# Altium schematic symbol library TIDA00792E2_AFE.SCHLIB: 95 symbols (part 1 of 2)
Pins are listed as number, name and electrical type; pins without a type are passive.

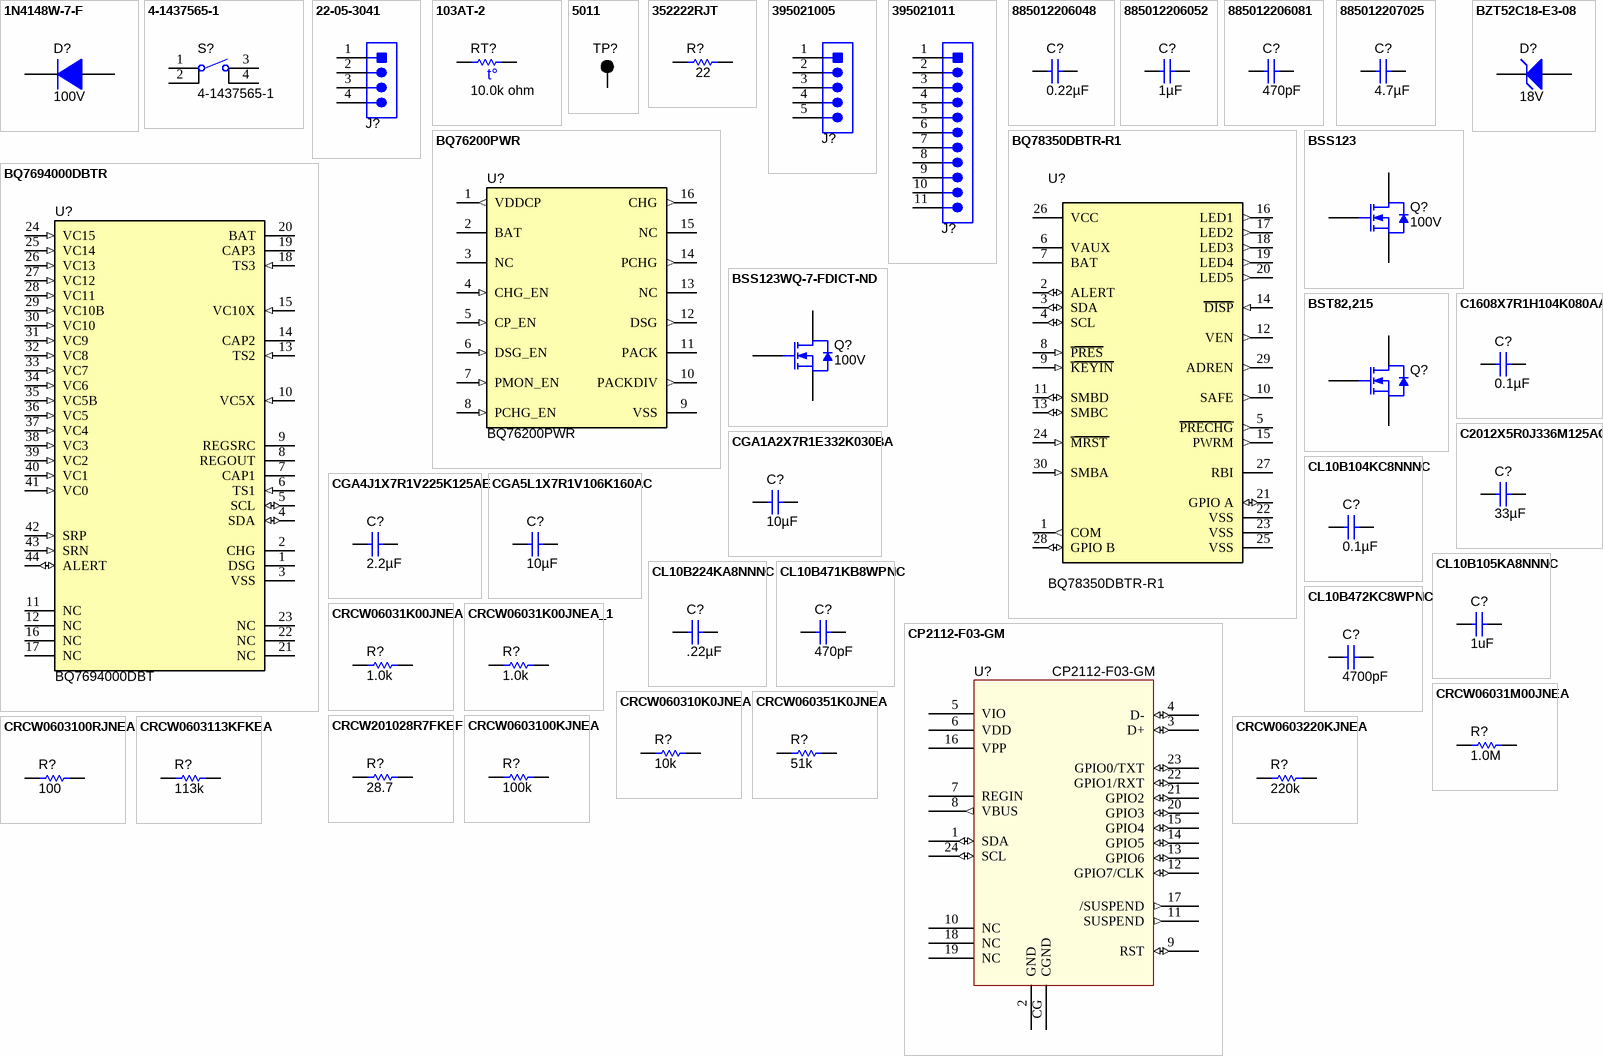
[diagram p0: symbols 1N4148W-7-F to CRCW0603220KJNEA]

## 1N4148W-7-F
designator D?  value 100V  (hidden comment: 1N4148W-7-F)
Diode, Ultrafast, 100V, 0.15A, SOD-123; Manufacturer: Diodes Inc.; U/M: EA; Vf_V: 1.25; Io_A: 0.15; Vr_V: 100; Value2: 1.25V; TJmax_C: 150; ComponentLink1URL: http://www.diodes.com/datasheets/ds30086.pdf; SymbolVersion: 2008-12-08; PackageReference: SOD-123; PartNumber: 1N4148W-7-F; ComponentLink1Description: Datasheet link; CompType: Diode; MountType: SMT; RoHS: Y; Value1: 0.15A; Type: Ultrafast; Published: 2008-06-26; Publisher: Texas Instruments; LatestRevisionDate: 2013-10-23; Supplier 1: Digi-Key; Supplier Part Number 1: 1N4148W-FDICT-ND; Supplier 2: Mouser; Supplier Part Number 2: 621-1N4148W-F; Supplier 3: Farnell; Supplier Part Number 3: 1776392
signal-integrity model Diode
simulation model 1N4148W
footprint SOD-123
pins: 1 K, 2 A

## 4-1437565-1
designator S?
Switch, Tactile, SPST-NO, 0.05A, 12V, SMT; Manufacturer: TE Connectivity; SymbolCreator: a0412235; VDC_V: 12; SwitchFunction: Off-Mom; PositionCount: 1; CurrentRating_mA: 50; ComponentLink1URL: http://www.te.com/commerce/DocumentDelivery/DDEController?Action=showdoc&DocId=Customer+Drawing%7F2-1437565-7%7FU2%7Fpdf%7FEnglish%7FENG_CD_2-1437565-7_U2.pdf%7F4-1437565-1; SymbolVersion: 2013-06-27; PackageReference: SW, SPST 6x6 mm; PartNumber: 4-1437565-1; ComponentLink1Description: Datasheet URL; MountType: SMT; RoHS: Y; Circuit: SPST-NO; Orientation: Top Actuated; CompType: Switch; Publisher: Texas Instruments; LatestRevisionDate: 2013-07-10; Supplier 1: Digi-Key; Supplier Part Number 1: 450-1129-ND; Supplier 2: Mouser; Supplier Part Number 2: 506-FSM4JSMA
footprint SW_FSM4JSMA
pins: 1, 2, 3, 4

## 22-05-3041
designator J?  (value not drawn)
Header (friction lock), 100mil, 4x1, R/A, TH; Manufacturer: Molex; SymbolCreator: a0412235; SymbolVersion: 2013-08-30; PartNumber: 22-05-3041; PackageReference: 4x1 R/A Header; CompType: Header; RoHS: Y; MountType: TH; ComponentLink1Description: Datasheet URL; ComponentLink1URL: http://www.molex.com/pdm_docs/sd/022053041_sd.pdf; Publisher: Texas Instruments; LatestRevisionDate: 2016-07-20; Supplier 1: Digi-Key; Supplier Part Number 1: WM4302-ND; Supplier 2: Mouser; Supplier Part Number 2: 538-22-05-3041; Supplier 3: Farnell; Supplier Part Number 3: 1756798
footprint CONN_22-05-3041
pins: 1, 2, 3, 4

## 103AT-2
designator RT?  value 10.0k ohm  (hidden comment: 103AT-2)
Thermistor NTC, 10.0k ohm, 1%, Disc, 5x8.4 mm; Manufacturer: SEMITEC Corporation; Tolerance_%: 1; Power_W: 0.01; TaMin_C: -50; TaMax_C: 110; U/M: EA; ComponentLink1URL: http://www.semitec.co.jp/english2/products/pdf/AT_Thermistor.pdf; PackageReference: Disc, 5x8.4 mm; SymbolVersion: 2008-11-25; PartNumber: 103AT-2; ComponentLink1Description: Datasheet link; CompType: ThermistorNTC; Series: AT; MountType: TH; RoHS: Y; Published: 2009-09-22; Publisher: Texas Instruments; LatestRevisionDate: 2013-08-16; Supplier 1: Mouser; Supplier Part Number 1: 954-103AT-2
footprint Thermistor_103AT-2
pins: 1, 2
text: t°

## 5011
designator TP?  (value not drawn)
Test Point, Multipurpose, Black, TH; Manufacturer: Keystone; CompType: Test Point Loop; ContactFinish: Silver; SymbolVersion: 2008-04-04; PartNumber: 5011; PackageReference: Black Multipurpose Testpoint; RoHS: Y; MountType: TH; ComponentLink1Description: Datasheet URL; ComponentLink1URL: http://www.keyelco.com/userAssets/file/M60-2p60.pdf; Color: Black; Publisher: Texas Instruments; LatestRevisionDate: 2016-02-11; Supplier 1: Digi-Key; Supplier Part Number 1: 36-5011-ND; Supplier 2: Mouser; Supplier Part Number 2: 534-5011
footprint Keystone5011
pins: 1

## 352222RJT
designator R?  ValueDisplayed: 22  (hidden comment: 352222RJT)
RES SMD 22 OHM 5% 3W 2512; Manufacturer: TE Connectivity Passive Product; CompType: Resistor; Value: 22; Tolerance_%: 5; VDC_V: 250; U/M: EA; SymbolVersion: 2009-05-29; PartNumber: 352222RJT; PackageReference: 2512; RoHS: Y; Res_ohm: 22; Value_Code: 22; Value1: 5%; Power_W: 3W; Value2: 3W; MountType: SMT; Technology: Thick Film; Published: 2008-06-26; Publisher: Texas Instruments; LatestRevisionDate: 2016-06-10; ComponentLink1Description: Datasheet link; ComponentLink1URL: http://www.te.com/commerce/DocumentDelivery/DDEController?Action=srchrtrv&DocNm=9-1773463-7&DocType=DS&DocLang=English; Supplier 1: Newark; Supplier 2: Mouser; Supplier 3: Digi-Key; Supplier Part Number 1: 48Y0381; Supplier Part Number 2: 279-352222RJT; Supplier Part Number 3: A121192CT-ND
signal-integrity model Resistor
simulation model Resistor
footprint STACKPOLE CSR2512 (Chip Resistor, 2-Leads, Body 6.40x3.20mm, IPC Medium Density)
footprint 2010M
footprint 2010L
pins: 1, 2

## 395021005
designator J?  (value not drawn)
Header (shrouded), 3.5mm, 5x1, R/A, TH; Manufacturer: Molex; SymbolCreator: a0412235; SymbolVersion: 2013-12-22; PartNumber: 395021005; PackageReference: 19.03x7.03x9.33 mm; CompType: Header; RoHS: Y; MountType: TH; ComponentLink1Description: Datasheet URL; ComponentLink1URL: http://www.molex.com/pdm_docs/sd/395021002_sd.pdf; Publisher: Texas Instruments; LatestRevisionDate: 2016-03-03; Supplier 1: Digi-Key; Supplier Part Number 1: WM7773-ND; Supplier 2: Mouser; Supplier Part Number 2: 538-39502-1005
footprint HEADER_395021005
pins: 1, 2, 3, 4, 5

## 395021011
designator J?  (value not drawn)
Terminal block, 3.5mm, 11x1, R/A, TH; Manufacturer: Molex; SymbolCreator: a0799628; U/M: EA; SymbolVersion: 2013-12-22; PartNumber: 395021011; PackageReference: 39.90x7.03x9.33 mm; CompType: Terminal Block; RoHS: Y; MountType: TH; ComponentLink1Description: Datasheet Link; ComponentLink1URL: http://www.molex.com/pdm_docs/sd/395021002_sd.pdf; Publisher: Texas Instruments; LatestRevisionDate: 2015-02-18; Supplier 1: Digi-Key; Supplier Part Number 1: WM7779-ND; Supplier 2: Mouser; Supplier Part Number 2: 538-39502-1011
footprint HEADER_395021011
pins: 1, 2, 3, 4, 5, 6, 7, 8, 9, 10, 11

## 885012206048
designator C?  ValueDisplayed: 0.22µF  (hidden comment: 885012206048)
CAP, CERM, 0.22 µF, 16 V, +/- 10%, X7R, 0603; Manufacturer: Wurth Elektronik; Polarized: N; CompType: Capacitor; Value: 0.22uF; U/M: EA; Cap_F: 0.00000022; Tolerance_%: 10; Value1: Unknown; VDC_V: 16; Value2: 16V; TaMin_C: -55; TaMax_C: 125; Cap_Case: 0603; SizeArea_mm2: 1.28; SizeAreaWB_mm2: 4.68; SizeX_mm: 1.6; SizeY_mm: 0.8; SizeZ_mm: 1; AEC Category: Q200; SymbolVersion: 2008-07-09; PartNumber: 885012206048; PackageReference: 0603; RoHS: Y; MountType: SMT; Technology: Ceramic; TempCo: X7R; Published: 2008-06-19; Publisher: Texas Instruments; LatestRevisionDate: 2016-06-14; ComponentLink1Description: Datasheet link; ComponentLink1URL: http://katalog.we-online.de/pbs/datasheet/885012206048.pdf; Supplier 1: Mouser; Supplier Part Number 1: 710-885012206048; AEC Qualified: N; AEC Grade: N/A
signal-integrity model Cap
simulation model Cap
footprint 0603
footprint 0603M
footprint 0603L
footprint 0603_HV
footprint 0603S
pins: 1, 2

## 885012206052
designator C?  ValueDisplayed: 1µF  (hidden comment: 885012206052)
CAP, CERM, 1 µF, 16 V, +/- 10%, X7R, 0603; Manufacturer: Wurth Elektronik; Polarized: N; CompType: Capacitor; Value: 1uF; U/M: EA; Cap_F: 0.000001; Tolerance_%: 10; Value1: Unknown; VDC_V: 16; Value2: 16V; TaMin_C: -55; TaMax_C: 125; Cap_Case: 0603; SizeArea_mm2: 1.28; SizeAreaWB_mm2: 4.68; SizeX_mm: 1.6; SizeY_mm: 0.8; SizeZ_mm: 1; AEC Category: Q200; SymbolVersion: 2008-07-09; PartNumber: 885012206052; PackageReference: 0603; RoHS: Y; MountType: SMT; Technology: Ceramic; TempCo: X7R; Published: 2008-06-19; Publisher: Texas Instruments; LatestRevisionDate: 2016-06-14; ComponentLink1Description: Datasheet link; ComponentLink1URL: http://katalog.we-online.de/pbs/datasheet/885012206052.pdf; Supplier 1: Mouser; Supplier Part Number 1: 710-885012206052; AEC Qualified: N; AEC Grade: N/A
signal-integrity model Cap
simulation model Cap
footprint 0603
footprint 0603M
footprint 0603L
footprint 0603_HV
footprint 0603S
pins: 1, 2

## 885012206081
designator C?  ValueDisplayed: 470pF  (hidden comment: 885012206081)
CAP, CERM, 470 pF, 50 V, +/- 10%, X7R, 0603; Manufacturer: Wurth Elektronik; Polarized: N; CompType: Capacitor; Value: 470pF; U/M: EA; Cap_F: 0.00000000047; Tolerance_%: 10; Value1: Unknown; VDC_V: 50; Value2: 50V; TaMin_C: -55; TaMax_C: 125; Cap_Case: 0603; SizeArea_mm2: 1.28; SizeAreaWB_mm2: 4.68; SizeX_mm: 1.6; SizeY_mm: 0.8; SizeZ_mm: 1; AEC Category: Q200; SymbolVersion: 2008-07-09; PartNumber: 885012206081; PackageReference: 0603; RoHS: Y; MountType: SMT; Technology: Ceramic; TempCo: X7R; Published: 2008-06-19; Publisher: Texas Instruments; LatestRevisionDate: 2016-06-14; ComponentLink1Description: Datasheet link; ComponentLink1URL: http://katalog.we-online.de/pbs/datasheet/885012206081.pdf; Supplier 1: Mouser; Supplier Part Number 1: 710-885012206081; AEC Qualified: N; AEC Grade: N/A
signal-integrity model Cap
simulation model Cap
footprint 0603
footprint 0603M
footprint 0603L
footprint 0603_HV
footprint 0603S
pins: 1, 2

## 885012207025
designator C?  ValueDisplayed: 4.7µF  (hidden comment: 885012207025)
CAP, CERM, 4.7 µF, 10 V, +/- 10%, X7R, 0805; Manufacturer: Wurth Elektronik; Polarized: N; CompType: Capacitor; Value: 4.7uF; U/M: EA; Cap_F: 0.0000047; Tolerance_%: 10; Value1: Unknown; Value2: 10V; TaMin_C: -55; TaMax_C: 125; Cap_Case: 0805; SizeArea_mm2: 2.5; SizeAreaWB_mm2: 6.75; SizeX_mm: 2; SizeY_mm: 1.25; SizeZ_mm: 1.45; AEC Category: Q200; SymbolVersion: 2008-07-09; PartNumber: 885012207025; PackageReference: 0805; RoHS: Y; VDC_V: 10; MountType: SMT; Technology: Ceramic; TempCo: X7R; Published: 2008-06-19; Publisher: Texas Instruments; LatestRevisionDate: 2016-06-14; ComponentLink1Description: Datasheet link; ComponentLink1URL: http://katalog.we-online.de/pbs/datasheet/885012207025.pdf; Supplier 1: Mouser; Supplier Part Number 1: 710-885012207025; AEC Qualified: N; AEC Grade: N/A
signal-integrity model Cap
simulation model Cap
footprint 0805_HV
footprint 0805_HV1
footprint 0805
footprint 0805M
footprint 0805L
pins: 1, 2

## BQ76200PWR
designator U?
bq76200: Low-Power, High-Side N-channel FET Driver with Pack Voltage Monitor, PW0016A; Manufacturer: Texas Instruments; SymbolCreator: x0208325; SizeArea_mm2: 32; SizeAreaWB_mm2: 58.8; SizeX_mm: 6.4; SizeY_mm: 5; SizeZ_mm: 1.2; CompType: IC; U/M: EA; SymbolVersion: 2013-12-26; PartNumber: BQ76200PWR; Alternate PartNumber: BQ76200PW; PackageReference: PW0016A; PackageDescription: TSSOP-16; MountType: SMT; ComponentLink1Description: Datasheet Link; ComponentLink1URL: http://www.ti.com/lit/ds/symlink/bq76200.pdf; RoHS: Y; Publisher: Texas Instruments; LatestRevisionDate: 2016-06-17; Alternate Manufacturer: Texas Instruments
footprint TTSOP16_N V2
pins: 1 VDDCP (out), 2 BAT (power), 3 NC, 4 CHG_EN (in), 5 CP_EN (in), 6 DSG_EN (in), 7 PMON_EN (in), 8 PCHG_EN (in), 9 VSS (power), 10 PACKDIV (out), 11 PACK (power), 12 DSG (out), 13 NC, 14 PCHG (out), 15 NC, 16 CHG (out)
1 alternate drawing of the same symbol

## BQ78350DBTR-R1
designator U?
CEDV Li-Ion Gas Gauge and Battery Management Controller Companion to the bq769x0 Battery Monitoring AFE, DBT0030A; Alternate PartNumber: BQ78350DBT-R1; Manufacturer: Texas Instruments; SymbolCreator: x0208325; CompType: IC; U/M: EA; SymbolVersion: 2013-11-18; PartNumber: BQ78350DBTR-R1; PackageReference: DBT0030A; MountType: SMT; ComponentLink1Description: Datasheet Link; ComponentLink1URL: http://www.ti.com/lit/ds/symlink/bq78350-r1.pdf; RoHS: Y; Publisher: Texas Instruments; LatestRevisionDate: 2016-04-08; Alternate Manufacturer: Texas Instruments
footprint TTSOP30_N V2
footprint DBT0030A_M
footprint DBT0030A_L
pins: 1 COM (out), 2 ALERT (io), 3 SDA (io), 4 SCL (io), 5 ~{PRECHG} (out), 6 VAUX (power), 7 BAT (power), 8 ~{PRES} (in), 9 ~{KEYIN} (in), 10 SAFE (out), 11 SMBD (io), 12 VEN (out), 13 SMBC (io), 14 ~{DISP} (in), 15 PWRM (out), 16 LED1 (out), 17 LED2 (out), 18 LED3 (out), 19 LED4 (out), 20 LED5 (out), 21 GPIO A (io), 22 VSS (power), 23 VSS (power), 24 ~{MRST} (in), 25 VSS (power), 26 VCC (power), 27 RBI (power), 28 GPIO B (io), 29 ADREN (out), 30 SMBA (in)
1 alternate drawing of the same symbol

## BQ7694000DBTR
designator U?, comment BQ7694000DBT
Battery Monitor for Lithium-Ion and Phosphate Battery Packs, DBT0044A; PartNumber: BQ7694000DBTR; Manufacturer: Texas Instruments; SymbolCreator: a0412235; CompType: IC; U/M: EA; SymbolVersion: 2012-12-21; Alternate PartNumber: BQ7694000DBT; PackageReference: DBT0044A; MountType: SMT; ComponentLink1Description: Datasheet Link; ComponentLink1URL: http://www.ti.com/lit/gpn/bq76920; RoHS: Y; Publisher: Texas Instruments; LatestRevisionDate: 2016-02-12; Alternate Manufacturer: Texas Instruments
footprint TTSOP44_N V2
footprint DBT0044A_M
footprint DBT0044A_L
pins: 1 DSG (power), 2 CHG (power), 3 VSS (power), 4 SDA (io), 5 SCL (io), 6 TS1 (in), 7 CAP1, 8 REGOUT (power), 9 REGSRC (power), 10 VC5X (in), 11 NC, 12 NC, 13 TS2 (in), 14 CAP2, 15 VC10X (in), 16 NC, 17 NC, 18 TS3 (in), 19 CAP3, 20 BAT (power), 21 NC, 22 NC, 23 NC, 24 VC15 (in), 25 VC14 (in), 26 VC13 (in), 27 VC12 (in), 28 VC11 (in), 29 VC10B (in), 30 VC10 (in), 31 VC9 (in), 32 VC8 (in), 33 VC7 (in), 34 VC6 (in), 35 VC5B (in), 36 VC5 (in), 37 VC4 (in), 38 VC3 (in), 39 VC2 (in), 40 VC1 (in), 41 VC0 (in), 42 SRP (in), 43 SRN (in), 44 ALERT (io)

## BSS123
designator Q?  value 100V  (hidden comment: BSS123)
MOSFET, N-CH, 100V, 0.17A, SOT-23; Manufacturer: Fairchild Semiconductor; Alternate Manufacturer: None; U/M: EA; ChType: N; VdsMax_V: 100; Value1: 10 ohm; Rdson45_Ohm: 10; Value2: 1.8 nC; QgTyp_nC: 1.8; Vgs_V: 20; IdsMax_A: 0.17; SymbolVersion: 2008-07-28; CompType: MOSFET; PartNumber: BSS123; PackageReference: SOT-23; RoHS: Y; MountType: SMT; Published: 2008-06-19; Publisher: Texas Instruments; LatestRevisionDate: 2013-10-21; LatestRevisionNote: Added parts.; ComponentLink1Description: Datasheet link; ComponentLink1URL: http://www.fairchildsemi.com/ds/BS/BSS123.pdf; Supplier 1: Digi-Key; Supplier Part Number 1: BSS123NCT-ND; Supplier 2: Mouser; Supplier Part Number 2: 512-BSS123; Supplier 3: Farnell; Supplier Part Number 3: 9845321
footprint SOT-23
footprint SOT-23M
footprint SOT-23L
pins: 1 G, 2 S, 3 D

## BSS123WQ-7-FDICT-ND
designator Q?  value 100V  (hidden comment: BSS123WQ-7-FDICT-ND)
MOSFET N-CH 100V 0.17A SOT323; Manufacturer: Diodes Incorporated; Alternate Manufacturer: None; U/M: EA; ChType: N; VdsMax_V: 100; Value1: 6 ohm; Rdson45_Ohm: 10; Vgs_V: 20; IdsMax_A: 0.17; SymbolVersion: 2008-07-28; CompType: MOSFET; PartNumber: BSS123WQ-7-FDICT-ND; PackageReference: SOT-323; RoHS: Y; MountType: SMT; Published: 2008-06-19; Publisher: Texas Instruments; LatestRevisionDate: 2013-10-21; LatestRevisionNote: Added parts.; ComponentLink1Description: Datasheet link; ComponentLink1URL: https://www.diodes.com/assets/Datasheets/BSS123WQ.pdf; Supplier 1: Digi-Key; Supplier Part Number 1: BSS123WQ-7-FDICT-ND
footprint SOT323
pins: 1 G, 2 S, 3 D

## BST82,215
designator Q?  (value not drawn)
MOSFET, N-CH, 100 V, 0.19 A, SOT-23; Manufacturer: NXP Semiconductor; Alternate Manufacturer: None; U/M: EA; ChType: N; Value: 100V; VdsMax_V: 100; Value1: 10 ohm; Rdson45_ohm: 10; Value2: ? nC; Vgs_V: 20; IdsMax_A: 0.19; AEC Category: Q101; SymbolVersion: 2008-07-28; CompType: MOSFET; PartNumber: BST82,215; PackageReference: SOT-23; RoHS: Y; MountType: SMT; Published: 2008-06-19; Publisher: Texas Instruments; LatestRevisionDate: 2016-03-03; LatestRevisionNote: Added parts.; ComponentLink1Description: Datasheet link; ComponentLink1URL: http://www.nxp.com/documents/data_sheet/BST82.pdf; Supplier 1: Digi-Key; Supplier Part Number 1: 568-6229-1-ND; Supplier 2: Mouser; Supplier Part Number 2: 771-BST82215; Supplier 3: Newark; Supplier Part Number 3: 75R4704; AEC Qualified: ?
footprint SOT-23
footprint SOT-23M
footprint SOT-23L
pins: 1 G, 2 S, 3 D

## BZT52C18-E3-08
designator D?  value 18V  (hidden comment: BZT52C18-E3-08)
DIODE ZENER 18V 5% 410MW SOD123; Manufacturer: Vishay Semiconductor Diodes Division; SymbolCreator: a0412235; U/M: EA; Power_W: .41; Vz_V: 18; Value1: 0.41W; RJA_CperW: 150; AEC Category: Q101; SymbolVersion: 2010-08-25; PartNumber: BZT52C18-E3-08; PackageReference: SOD-123; CompType: Zener; Vr_V: N/A; MountType: SMT; RoHS: Y; ComponentLink1Description: Datasheet link; ComponentLink1URL: http://www.vishay.com/docs/85760/bzt52.pdf; Published: 2008-10-08; Publisher: Texas Instruments; LatestRevisionDate: 2016-01-12; LatestRevisionNote: Updated Supplier Data; AEC Qualified: ?; Supplier 1: Digi-Key; Supplier 2: Mouser; Supplier Part Number 1: BZT52C18-E3-08GIDKR-ND; Supplier Part Number 2: 78-BZT52C18-E3-08
signal-integrity model Diode
footprint SOD-123 (SOD, 2-Leads, Body 1.55x3.70mm, IPC Medium Density)
pins: 1 K, 2 A

## C1608X7R1H104K080AA
designator C?  ValueDisplayed: 0.1µF  (hidden comment: C1608X7R1H104K080AA)
CAP, CERM, 0.1 µF, 50 V, +/- 10%, X7R, 0603; Manufacturer: TDK; Polarized: N; CompType: Capacitor; Value: 0.1uF; U/M: EA; Cap_F: 0.0000001; Tolerance_%: 10; ESR_ohm: 0.0296; Value1: 0.0296 ohm; VDC_V: 50; Value2: 50V; IRMS_A: 0.97199; TaMin_C: -55; TaMax_C: 125; Cap_Case: 0603; SizeArea_mm2: 1.28; SizeAreaWB_mm2: 4.68; SizeX_mm: 1.6; SizeY_mm: 0.8; SizeZ_mm: 1; AEC Category: Q200; SymbolVersion: 2008-07-09; PartNumber: C1608X7R1H104K080AA; PackageReference: 0603; RoHS: Y; MountType: SMT; Technology: Ceramic; TempCo: X7R; Published: 2008-06-19; Publisher: Texas Instruments; LatestRevisionDate: 2016-06-14; ComponentLink1Description: Datasheet link; ComponentLink1URL: https://product.tdk.com/en/search/capacitor/ceramic/mlcc/info?part_no=C1608X7R1H104K080AA; AEC Qualified: N; AEC Grade: N/A; Supplier 1: Digi-Key; Supplier 2: Mouser; Supplier Part Number 1: 445-1314-6-ND; Supplier Part Number 2: 810-C1608X7R1H104K
signal-integrity model Cap
simulation model Cap
footprint CAP 0603/1608 (Chip Capacitor, 2-Leads, Body 1.60x0.80mm, IPC Medium Density)
pins: 1, 2

## C2012X5R0J336M125AC
designator C?  ValueDisplayed: 33µF  (hidden comment: C2012X5R0J336M125AC)
CAP CER 33UF 6.3V X5R 0805; Manufacturer: TDK Corporation; Polarized: N; CompType: Capacitor; U/M: EA; Cap_F: 0.000033; Tolerance_%: 20; Value1: Unknown; VDC_V: 6.3; TaMin_C: -55; TaMax_C: 125; Cap_Case: 0805; SizeArea_mm2: 5.12; SizeAreaWB_mm2: 14.7; SizeX_mm: 3.2; SizeY_mm: 1.6; SizeZ_mm: 2.7; AEC Qualified: Y; SymbolVersion: 2008-07-09; Value: 33uF; PartNumber: C2012X5R0J336M125AC; PackageReference: 0805; RoHS: Y; Value2: 6.3V; MountType: SMT; Technology: Ceramic; TempCo: X5R; ComponentLink1Description: Datasheet link; ComponentLink1URL: https://product.tdk.com/info/en/documents/chara_sheet/C2012X5R0J336M125AC.pdf; Supplier 1: Mouser; Supplier 2: Digi-Key; Supplier Part Number 1: 810-C2012X5R0J336M; Supplier Part Number 2: 445-5986-1-ND
signal-integrity model Cap
simulation model Cap
footprint CAP 0805/2012 (Chip Capacitor, 2-Leads, Body 2.00x1.20mm, IPC Medium Density)
pins: 1, 2

## CGA1A2X7R1E332K030BA
designator C?  ValueDisplayed: 10µF  (hidden comment: CGA1A2X7R1E332K030BA)
CAP CER 3300PF 25V X7R 0201; Manufacturer: TDK Corporation; Polarized: N; CompType: Capacitor; Value: 10uF; U/M: EA; Cap_F: 0.00001; Tolerance_%: 10; Value1: Unknown; VDC_V: 35; Value2: 35V; TaMin_C: -55; TaMax_C: 125; Cap_Case: 1206; SizeArea_mm2: 5.12; SizeAreaWB_mm2: 14.7; SizeX_mm: 3.2; SizeY_mm: 1.6; SizeZ_mm: 2.7; AEC Category: Q200; SymbolVersion: 2008-07-09; PartNumber: CGA1A2X7R1E332K030BA; PackageReference: 1206; RoHS: Y; MountType: SMT; Technology: Ceramic; TempCo: X7R; Published: 2008-06-19; Publisher: Texas Instruments; LatestRevisionDate: 2016-06-14; ComponentLink1Description: Datasheet link; ComponentLink1URL: https://product.tdk.com/info/en/catalog/datasheets/mlcc_automotive_general_en.pdf; AEC Qualified: ?; Supplier 1: Mouser; Supplier 2: Digi-Key; Supplier Part Number 1: 810-CGA5L1X7R1V106KC; Supplier Part Number 2: 445-174428-6-ND
signal-integrity model Cap
simulation model Cap
footprint CAP 1206/3216 - 1.8MM (Chip Capacitor, 2-Leads, Body 3.25x1.60mm, IPC Medium Density)
pins: 1, 2

## CGA4J1X7R1V225K125AE
designator C?  ValueDisplayed: 2.2µF  (hidden comment: CGA4J1X7R1V225K125AE)
CAP CER 2.2µF 10% 35V X7R 0805; Manufacturer: TDK Corporation; Polarized: N; CompType: Capacitor; U/M: EA; Cap_F: 0.0000022; Tolerance_%: 10; Value1: Unknown; VDC_V: 16; TaMin_C: -55; TaMax_C: 125; Cap_Case: 0805; SizeArea_mm2: 2.5; SizeAreaWB_mm2: 4.68; SizeX_mm: 2.0; SizeY_mm: 1.25; AEC Category: Q200; SymbolVersion: 2008-07-09; Value: 2.2µF; PartNumber: CGA4J1X7R1V225K125AE; PackageReference: 0805; RoHS: Y; Value2: 35V; MountType: SMT; Technology: Ceramic; TempCo: X7R; SizeZ_mm: 1.25; Published: 2008-06-19; Publisher: Texas Instruments; LatestRevisionDate: 2016-06-14; ComponentLink1Description: Datasheet link; ComponentLink1URL: https://product.tdk.com/info/en/documents/chara_sheet/CGA4J1X7R1V225K125AE.pdf; AEC Qualified: N; AEC Grade: N/A; Supplier 1: Digi-Key; Supplier 2: Mouser; Supplier 3: Newark; Supplier Part Number 1: 445-8787-1-ND; Supplier Part Number 2: 810-CGA4J1X7R1V225KS; Supplier Part Number 3: 93T4804
signal-integrity model Cap
simulation model Cap
footprint CAP 0805/2012 (Chip Capacitor, 2-Leads, Body 2.00x1.20mm, IPC Medium Density)
footprint 0603M
footprint 0603L
footprint 0603_HV
footprint 0603S
pins: 1, 2

## CGA5L1X7R1V106K160AC
designator C?  ValueDisplayed: 10µF  (hidden comment: CGA5L1X7R1V106K160AC)
CAP CER 10µF 35V X7R 1206; Manufacturer: TDK Corporation; Polarized: N; CompType: Capacitor; Value: 10uF; U/M: EA; Cap_F: 0.00001; Tolerance_%: 10; Value1: Unknown; VDC_V: 35; TaMin_C: -55; TaMax_C: 125; Cap_Case: 1206; SizeArea_mm2: 5.12; SizeAreaWB_mm2: 14.7; SizeX_mm: 3.2; SizeY_mm: 1.6; SizeZ_mm: 2.7; AEC Category: Q200; SymbolVersion: 2008-07-09; PartNumber: CGA5L1X7R1V106K160AC; PackageReference: 1206; RoHS: Y; Value2: 35V; MountType: SMT; Technology: Ceramic; TempCo: X7R; Published: 2008-06-19; Publisher: Texas Instruments; LatestRevisionDate: 2016-06-14; ComponentLink1Description: Datasheet link; ComponentLink1URL: https://product.tdk.com/info/en/catalog/datasheets/mlcc_automotive_general_en.pdf; AEC Qualified: ?; Supplier 1: Mouser; Supplier 2: Digi-Key; Supplier Part Number 1: 810-CGA5L1X7R1V106KC; Supplier Part Number 2: 445-174428-6-ND
signal-integrity model Cap
simulation model Cap
footprint CAP 1206/3216 - 1.8MM (Chip Capacitor, 2-Leads, Body 3.25x1.60mm, IPC Medium Density)
pins: 1, 2

## CL10B104KC8NNNC
designator C?  ValueDisplayed: 0.1µF  (hidden comment: CL10B104KC8NNNC)
CAP CER 0.1UF 10% 100V X7R 0603; Manufacturer: Samsung Electro-Mechanics; Polarized: N; CompType: Capacitor; U/M: EA; Cap_F: 0.0000001; Tolerance_%: 10; VDC_V: 100; IRMS_A: 0.97199; TaMin_C: -55; TaMax_C: 125; Cap_Case: 0603; SizeArea_mm2: 1.28; SizeAreaWB_mm2: 4.68; SizeX_mm: 1.6; SizeY_mm: 0.8; SizeZ_mm: 1; SymbolVersion: 2008-07-09; Value: 0.1uF; PartNumber: CL10B104KC8NNNC; PackageReference: 0603; RoHS: Y; Value1: 100V; MountType: SMT; Technology: Ceramic; TempCo: X7R; Published: 2008-06-19; Publisher: Texas Instruments; LatestRevisionDate: 2016-06-14; ComponentLink1Description: Datasheet link; ComponentLink1URL: http://www.samsungsem.com/kr/support/product-search/mlcc/CL10B104KC8NNNC.jsp; AEC Category: N/A; AEC Qualified: N; AEC Grade: N/A; Supplier 1: Digi-Key; Supplier 2: Mouser; Supplier Part Number 1: 445-1314-6-ND; Supplier Part Number 2: 810-C1608X7R1H104K
signal-integrity model Cap
simulation model Cap
footprint CAP 0603/1608 (Chip Capacitor, 2-Leads, Body 1.60x0.80mm, IPC Medium Density)
pins: 1, 2

## CL10B105KA8NNNC
designator C?  ValueDisplayed: 1uF  (hidden comment: CL10B105KA8NNNC)
CAP CER 1uF 25V 10% X7R 0603; Manufacturer: Samsung Electro-Mechanics Inc.; Polarized: N; CompType: Capacitor; U/M: EA; Cap_F: 0.000001; Tolerance_%: 10; Value1: Unknown; VDC_V: 25; TaMin_C: -55; TaMax_C: 125; Cap_Case: 0603; SizeArea_mm2: 1.28; SizeAreaWB_mm2: 4.68; SizeX_mm: 1.6; SizeY_mm: 0.8; SizeZ_mm: 1; AEC Category: Q200; SymbolVersion: 2008-07-09; Value: 1uF; PartNumber: CL10B105KA8NNNC; PackageReference: 0603; RoHS: Y; Value2: 25V; MountType: SMT; Technology: Ceramic; TempCo: X7R; Published: 2008-06-19; Publisher: Texas Instruments; LatestRevisionDate: 2016-06-14; ComponentLink1Description: Datasheet link; ComponentLink1URL: http://www.samsungsem.com/kr/support/product-search/mlcc/CL10B105KA8NNNC.jsp; Supplier 1: Digikey; Supplier Part Number 1: 1276-1184-1-ND; AEC Qualified: N; AEC Grade: N/A
signal-integrity model Cap
simulation model Cap
footprint CAP 0603/1608 (Chip Capacitor, 2-Leads, Body 1.60x0.80mm, IPC Medium Density)
pins: 1, 2

## CL10B224KA8NNNC
designator C?  ValueDisplayed: .22µF  (hidden comment: CL10B224KA8NNNC)
CAP CER 0.22uF 10% 25V X7R 0603; Manufacturer: Samsung Electro-Mechanics Inc.; Polarized: N; CompType: Capacitor; U/M: EA; Cap_F: 0.00000022; Tolerance_%: 10; Value1: Unknown; VDC_V: 25; TaMin_C: -55; TaMax_C: 125; Cap_Case: 0603; SizeArea_mm2: 1.28; SizeAreaWB_mm2: 4.68; SizeX_mm: 1.6; SizeY_mm: 0.8; SizeZ_mm: 1; AEC Category: Q200; SymbolVersion: 2008-07-09; Value: 0.22uF; PartNumber: CL10B224KA8NNNC; PackageReference: 0603; RoHS: Y; Value2: 0.22uF; MountType: SMT; Technology: Ceramic; TempCo: X7R; Published: 2008-06-19; Publisher: Texas Instruments; LatestRevisionDate: 2016-06-14; ComponentLink1Description: Datasheet link; ComponentLink1URL: http://www.samsungsem.com/kr/support/product-search/mlcc/CL10B105KA8NNNC.jsp; Supplier 1: Digikey; Supplier Part Number 1: 1276-1111-1-ND; AEC Qualified: N; AEC Grade: N/A
signal-integrity model Cap
simulation model Cap
footprint CAP 0603/1608 (Chip Capacitor, 2-Leads, Body 1.60x0.80mm, IPC Medium Density)
pins: 1, 2

## CL10B471KB8WPNC
designator C?  ValueDisplayed: 470pF  (hidden comment: CL10B471KB8WPNC)
CAP CER 470PF 10% 50V X7R 0603; Manufacturer: Samsung Electro-Mechanics America, Inc.; Polarized: N; CompType: Capacitor; U/M: EA; Cap_F: 0.00000000047; Tolerance_%: 10; Value1: Unknown; VDC_V: 50; TaMin_C: -55; TaMax_C: 125; Cap_Case: 0603; SizeArea_mm2: 1.28; SizeAreaWB_mm2: 4.68; SizeX_mm: 1.6; SizeY_mm: 0.8; SizeZ_mm: 1; AEC Category: Q200; SymbolVersion: 2008-07-09; Value: 470pF; PartNumber: CL10B471KB8WPNC; PackageReference: 0603; RoHS: Y; Value2: 50V; MountType: SMT; Technology: Ceramic; TempCo: X7R; Published: 2008-06-19; Publisher: Texas Instruments; LatestRevisionDate: 2016-06-14; ComponentLink1Description: Datasheet link; ComponentLink1URL: https://www.digikey.com/catalog/en/partgroup/cl-series-automotive/36790?mpart=CL10B471KB8WPNC&vendor=1276; AEC Qualified: N; AEC Grade: N/A; Supplier 1: Digi-Key; Supplier 2: Arrow; Supplier Part Number 1: 1276-6635-1-ND; Supplier Part Number 2: CL10B471KB8WPNC
signal-integrity model Cap
simulation model Cap
footprint CAP 0603/1608 (Chip Capacitor, 2-Leads, Body 1.60x0.80mm, IPC Medium Density)
footprint 0603M
footprint 0603L
footprint 0603_HV
footprint 0603S
pins: 1, 2

## CL10B472KC8WPNC
designator C?  ValueDisplayed: 4700pF  (hidden comment: CL10B472KC8WPNC)
CAP CER 4700PF 10% 100V X7R 0603; Manufacturer: Samsung Electro-Mechanics America, Inc.; Polarized: N; CompType: Capacitor; U/M: EA; Cap_F: 0.0000000047; Tolerance_%: 10; Value1: Unknown; VDC_V: 100; TaMin_C: -55; TaMax_C: 125; Cap_Case: 0603; SizeArea_mm2: 1.28; SizeAreaWB_mm2: 4.68; SizeX_mm: 1.6; SizeY_mm: 0.8; SizeZ_mm: .35; AEC Category: Q200; SymbolVersion: 2008-07-09; Value: 4700pF; PartNumber: CL10B472KC8WPNC; PackageReference: 0603; RoHS: Y; Value2: 100V; MountType: SMT; Technology: Ceramic; TempCo: X7R; Published: 2008-06-19; Publisher: Texas Instruments; LatestRevisionDate: 2016-06-14; ComponentLink1Description: Datasheet link; ComponentLink1URL: http://www.samsungsem.com/kr/support/library/product-catalog/mlcc.jsp; Supplier 1: Digi-Key; Supplier Part Number 1: 1276-6584-1-ND; AEC Qualified: N; AEC Grade: N/A
signal-integrity model Cap
simulation model Cap
footprint CAP 0603/1608 (Chip Capacitor, 2-Leads, Body 1.60x0.80mm, IPC Medium Density)
footprint 0603M
footprint 0603L
footprint 0603_HV
footprint 0603S
pins: 1, 2

## CP2112-F03-GM
designator U?
IC HID USB-TO-SMBUS BRIDGE 24QFN; Manufacturer: Silicon Labs; SymbolCreator: x0208325; U/M: EA; SymbolVersion: 2013-12-26; PartNumber: CP2112-F03-GM; PackageDescription: 24-QFN; MountType: SMT; ComponentLink1Description: Datasheet Link; ComponentLink1URL: http://www.silabs.com/documents/public/data-sheets/cp2112-datasheet.pdf; CompType: IC; RoHS: Y; LatestRevisionDate: 2016-06-17; Supplier 1: Mouser; Supplier 2: Digi-Key; Supplier Part Number 1: 634-CP2112-F02-GM; Supplier Part Number 2: 336-2149-5-ND
footprint QFN50P395X395X80_HS-25N (QFN, 24-Leads, Body 3.95x3.95mm, Pitch 0.50mm, Thermal Pad 2.75x2.75mm, IPC Medium Density)
pins: 1 SDA (io), 2 GND (power), 3 D+ (io), 4 D- (io), 5 VIO (power), 6 VDD (power), 7 REGIN (power), 8 VBUS (out), 9 RST (io), 10 NC, 11 SUSPEND (out), 12 GPIO7/CLK (io), 13 GPIO6 (io), 14 GPIO5 (io), 15 GPIO4 (io), 16 VPP (power), 17 /SUSPEND (out), 18 NC, 19 NC, 20 GPIO3 (io), 21 GPIO2 (io), 22 GPIO1/RXT (io), 23 GPIO0/TXT (io), 24 SCL (io), CG CGND (power)
1 alternate drawing of the same symbol

## CRCW06031K00JNEA
designator R?  ValueDisplayed: 1.0k  (hidden comment: CRCW06031K00JNEA)
RES, 1.0 k, 5%, 0.1 W, 0603; Manufacturer: Vishay-Dale; CompType: Resistor; Value: 1.0k; Res_ohm: 1000; Value_Code: 1k00; Tolerance_%: 5; Power_W: 0.1; Value2: 0.1W; VDC_V: 75; TempCo: 200 ppm/C; EIA_Code: E24; U/M: EA; SymbolVersion: 2009-05-29; PartNumber: CRCW06031K00JNEA; PackageReference: 0603; RoHS: Y; Value1: 5%; MountType: SMT; Technology: Thick Film; Published: 2008-06-26; Publisher: Texas Instruments; LatestRevisionDate: 2015-04-06; ComponentLink1Description: Datasheet link; ComponentLink1URL: http://www.vishay.com/docs/20035/dcrcwe3.pdf; Supplier 1: Digi-Key; Supplier Part Number 1: 541-1.0KGCT-ND; Supplier 2: Mouser; Supplier Part Number 2: 71-CRCW0603J-1.0K-E3; Supplier 3: Farnell; Supplier Part Number 3: 1652851
signal-integrity model Resistor
simulation model Resistor
footprint 0603
footprint 0603M
footprint 0603L
footprint 0603_HV
footprint 0603S
pins: 1, 2

## CRCW06031K00JNEA_1
designator R?, comment ValueDisplayed: 1.0k  (hidden comment: CRCW06031K00JNEA)
RES, 1.0 k, 5%, 0.1 W, 0603; Manufacturer: Vishay-Dale; CompType: Resistor; Value: 1.0k; Res_ohm: 1000; Value_Code: 1k00; Tolerance_%: 5; Power_W: 0.1; Value2: 0.1W; VDC_V: 75; TempCo: 200 ppm/C; EIA_Code: E24; U/M: EA; AEC Category: Q200; SizeArea_mm2: 1.28; SizeX_mm: 1.6; SizeY_mm: 0.8; SizeZ_mm: 1; SymbolVersion: 2009-05-29; PartNumber: CRCW06031K00JNEA; PackageReference: 0603; RoHS: Y; Value1: 5%; MountType: SMT; Technology: Thick Film; Published: 2008-06-26; Publisher: Texas Instruments; LatestRevisionDate: 2016-06-29; ComponentLink1Description: Datasheet link; ComponentLink1URL: http://www.vishay.com/docs/20035/dcrcwe3.pdf; Supplier 1: Digi-Key; Supplier Part Number 1: 541-1.0KGCT-ND; Supplier 2: Mouser; Supplier Part Number 2: 71-CRCW0603J-1.0K-E3; Supplier 3: Farnell; Supplier Part Number 3: 1652851; AEC Qualified: ?
signal-integrity model Resistor
simulation model Resistor
footprint 0603
footprint 0603M
footprint 0603L
footprint 0603_HV
footprint 0603S
pins: 1, 2

## CRCW06031M00JNEA
designator R?  ValueDisplayed: 1.0M  (hidden comment: CRCW06031M00JNEA)
RES, 1.0 M, 5%, 0.1 W, 0603; Manufacturer: Vishay-Dale; CompType: Resistor; Value: 1.0Meg; Res_ohm: 1000000; Value_Code: 1M00; Tolerance_%: 5; Power_W: 0.1; Value2: 0.1W; VDC_V: 75; TempCo: 200 ppm/C; EIA_Code: E24; U/M: EA; AEC Category: Q200; SymbolVersion: 2009-05-29; PartNumber: CRCW06031M00JNEA; PackageReference: 0603; RoHS: Y; Value1: 5%; MountType: SMT; Technology: Thick Film; Published: 2008-06-26; Publisher: Texas Instruments; LatestRevisionDate: 2016-04-07; ComponentLink1Description: Datasheet link; ComponentLink1URL: http://www.vishay.com/docs/20035/dcrcwe3.pdf; Supplier 1: Digi-Key; Supplier Part Number 1: 541-1.0MGCT-ND; Supplier 2: Mouser; Supplier Part Number 2: 71-CRCW0603J-1.0M-E3; Supplier 3: Farnell; Supplier Part Number 3: 1514706; AEC Qualified: ?
signal-integrity model Resistor
simulation model Resistor
footprint 0603
footprint 0603M
footprint 0603L
footprint 0603_HV
footprint 0603S
pins: 1, 2

## CRCW060310K0JNEA
designator R?  ValueDisplayed: 10k  (hidden comment: CRCW060310K0JNEA)
RES, 10 k, 5%, 0.1 W, 0603; Manufacturer: Vishay-Dale; CompType: Resistor; Value: 10k; Res_ohm: 10000; Value_Code: 10k0; Tolerance_%: 5; Power_W: 0.1; Value2: 0.1W; VDC_V: 75; TempCo: 200 ppm/C; EIA_Code: E24; U/M: EA; SymbolVersion: 2009-05-29; PartNumber: CRCW060310K0JNEA; PackageReference: 0603; RoHS: Y; Value1: 5%; MountType: SMT; Technology: Thick Film; Published: 2008-06-26; Publisher: Texas Instruments; LatestRevisionDate: 2015-04-06; ComponentLink1Description: Datasheet link; ComponentLink1URL: http://www.vishay.com/docs/20035/dcrcwe3.pdf; Supplier 1: Digi-Key; Supplier Part Number 1: 541-10KGCT-ND; Supplier 2: Mouser; Supplier Part Number 2: 71-CRCW0603J-10K-E3; Supplier 3: Farnell; Supplier Part Number 3: 1469749
signal-integrity model Resistor
simulation model Resistor
footprint RES 0603/1608 (Chip Resistor, 2-Leads, Body 1.60x0.80mm, IPC Medium Density)
footprint 0603M
footprint 0603L
footprint 0603_HV
footprint 0603S
pins: 1, 2

## CRCW060351K0JNEA
designator R?  ValueDisplayed: 51k  (hidden comment: CRCW060351K0JNEA)
RES, 51 k, 5%, 0.1 W, 0603; Manufacturer: Vishay-Dale; CompType: Resistor; Value: 51k; Res_ohm: 51000; Value_Code: 51k0; Tolerance_%: 5; Power_W: 0.1; Value2: 0.1W; VDC_V: 75; TempCo: 200 ppm/C; EIA_Code: E24; U/M: EA; AEC Category: Q200; SymbolVersion: 2009-05-29; PartNumber: CRCW060351K0JNEA; PackageReference: 0603; RoHS: Y; Value1: 5%; MountType: SMT; Technology: Thick Film; Published: 2008-06-26; Publisher: Texas Instruments; LatestRevisionDate: 2016-04-07; ComponentLink1Description: Datasheet link; ComponentLink1URL: http://www.vishay.com/docs/20035/dcrcwe3.pdf; Supplier 1: Digi-Key; Supplier Part Number 1: 541-51KGCT-ND; Supplier 2: Mouser; Supplier Part Number 2: 71-CRCW0603J-51K-E3; Supplier 3: Farnell; Supplier Part Number 3: 1514777; AEC Qualified: ?
signal-integrity model Resistor
simulation model Resistor
footprint 0603
footprint 0603M
footprint 0603L
footprint 0603_HV
footprint 0603S
pins: 1, 2

## CRCW201028R7FKEF
designator R?  ValueDisplayed: 28.7  (hidden comment: CRCW201028R7FKEF)
RES, 28.7, 1%, 0.75 W, 2010; Manufacturer: Vishay-Dale; CompType: Resistor; Value: 28.7; Value_Code: 28R7; Tolerance_%: 1; Power_W: 0.75; Value2: 0.75W; VDC_V: 400; TempCo: 100 ppm/C; EIA_Code: E96; U/M: EA; SymbolVersion: 2009-05-29; PartNumber: CRCW201028R7FKEF; PackageReference: 2010; RoHS: Y; Res_ohm: 28.7; Value1: 1%; MountType: SMT; Technology: Thick Film; Published: 2008-06-26; Publisher: Texas Instruments; LatestRevisionDate: 2015-04-13; ComponentLink1Description: Datasheet link; ComponentLink1URL: http://www.vishay.com/doc?20035; Supplier 1: Digi-Key; Supplier Part Number 1: 541-28.7ACCT-ND
signal-integrity model Resistor
simulation model Resistor
footprint 2010
footprint 2010M
footprint 2010L
pins: 1, 2

## CRCW0603100KJNEA
designator R?  ValueDisplayed: 100k  (hidden comment: CRCW0603100KJNEA)
RES, 100 k, 5%, 0.1 W, 0603; Manufacturer: Vishay-Dale; CompType: Resistor; Value: 100k; Res_ohm: 100000; Tolerance_%: 5; Power_W: 0.1; Value2: 0.1W; VDC_V: 75; TempCo: 200 ppm/C; EIA_Code: E24; U/M: EA; AEC Category: Q200; SymbolVersion: 2009-05-29; PartNumber: CRCW0603100KJNEA; PackageReference: 0603; RoHS: Y; Value_Code: 100k; Value1: 5%; MountType: SMT; Technology: Thick Film; Published: 2008-06-26; Publisher: Texas Instruments; LatestRevisionDate: 2016-04-07; ComponentLink1Description: Datasheet link; ComponentLink1URL: http://www.vishay.com/docs/20035/dcrcwe3.pdf; Supplier 1: Digi-Key; Supplier Part Number 1: 541-100KGCT-ND; Supplier 2: Mouser; Supplier Part Number 2: 71-CRCW0603J-100K-E3; Supplier 3: Farnell; Supplier Part Number 3: 1692517; AEC Qualified: ?
signal-integrity model Resistor
simulation model Resistor
footprint 0603
footprint 0603M
footprint 0603L
footprint 0603_HV
footprint 0603S
pins: 1, 2

## CRCW0603100RJNEA
designator R?  ValueDisplayed: 100  (hidden comment: CRCW0603100RJNEA)
RES, 100, 5%, 0.1 W, 0603; Manufacturer: Vishay-Dale; CompType: Resistor; Value: 100; Value_Code: 100R; Tolerance_%: 5; Power_W: 0.1; Value2: 0.1W; VDC_V: 75; TempCo: 200 ppm/C; EIA_Code: E24; U/M: EA; AEC Category: Q200; SymbolVersion: 2009-05-29; PartNumber: CRCW0603100RJNEA; PackageReference: 0603; RoHS: Y; Res_ohm: 100; Value1: 5%; MountType: SMT; Technology: Thick Film; Published: 2008-06-26; Publisher: Texas Instruments; LatestRevisionDate: 2016-04-07; ComponentLink1Description: Datasheet link; ComponentLink1URL: http://www.vishay.com/docs/20035/dcrcwe3.pdf; Supplier 1: Digi-Key; Supplier Part Number 1: 541-100GCT-ND; Supplier 2: Mouser; Supplier Part Number 2: 71-CRCW0603J-100-E3; Supplier 3: Farnell; Supplier Part Number 3: 1514715; AEC Qualified: ?
signal-integrity model Resistor
simulation model Resistor
footprint 0603
footprint 0603M
footprint 0603L
footprint 0603_HV
footprint 0603S
pins: 1, 2

## CRCW0603113KFKEA
designator R?  ValueDisplayed: 113k  (hidden comment: CRCW0603113KFKEA)
RES, 113 k, 1%, 0.1 W, 0603; Manufacturer: Vishay-Dale; CompType: Resistor; Value: 113k; Res_ohm: 113000; Tolerance_%: 1; Power_W: 0.1; Value2: 0.1W; VDC_V: 75; TempCo: 100 ppm/C; SizeArea_mm2: 1.28; SizeX_mm: 1.6; SizeY_mm: 0.8; EIA_Code: E96; U/M: EA; AEC Category: Q200; SymbolVersion: 2009-05-29; PartNumber: CRCW0603113KFKEA; PackageReference: 0603; RoHS: Y; Value_Code: 113k; Value1: 1%; MountType: SMT; Technology: Thick Film; SizeZ_mm: 1; Published: 2008-06-26; Publisher: Texas Instruments; LatestRevisionDate: 2016-09-28; ComponentLink1Description: Datasheet link; ComponentLink1URL: http://www.vishay.com/docs/20035/dcrcwe3.pdf; Supplier 1: Digi-Key; Supplier Part Number 1: 541-113KHCT-ND; Supplier 2: Mouser; Supplier Part Number 2: 71-CRCW0603-113K-E3; Supplier 3: Farnell; Supplier Part Number 3: 1633708; AEC Qualified: ?
signal-integrity model Resistor
simulation model Resistor
footprint 0603
footprint 0603M
footprint 0603L
footprint 0603_HV
footprint 0603S
pins: 1, 2

## CRCW0603220KJNEA
designator R?  ValueDisplayed: 220k  (hidden comment: CRCW0603220KJNEA)
RES, 220 k, 5%, 0.1 W, 0603; Manufacturer: Vishay-Dale; CompType: Resistor; Value: 220k; Res_ohm: 220000; Tolerance_%: 5; Power_W: 0.1; Value2: 0.1W; VDC_V: 75; TempCo: 200 ppm/C; EIA_Code: E24; U/M: EA; AEC Category: Q200; SymbolVersion: 2009-05-29; PartNumber: CRCW0603220KJNEA; PackageReference: 0603; RoHS: Y; Value_Code: 220k; Value1: 5%; MountType: SMT; Technology: Thick Film; Published: 2008-06-26; Publisher: Texas Instruments; LatestRevisionDate: 2016-04-07; ComponentLink1Description: Datasheet link; ComponentLink1URL: http://www.vishay.com/docs/20035/dcrcwe3.pdf; Supplier 1: Digi-Key; Supplier Part Number 1: 541-220KGCT-ND; Supplier 2: Mouser; Supplier Part Number 2: 71-CRCW0603J-220K-E3; Supplier 3: Farnell; Supplier Part Number 3: 1514741; AEC Qualified: ?
signal-integrity model Resistor
simulation model Resistor
footprint 0603
footprint 0603M
footprint 0603L
footprint 0603_HV
footprint 0603S
pins: 1, 2

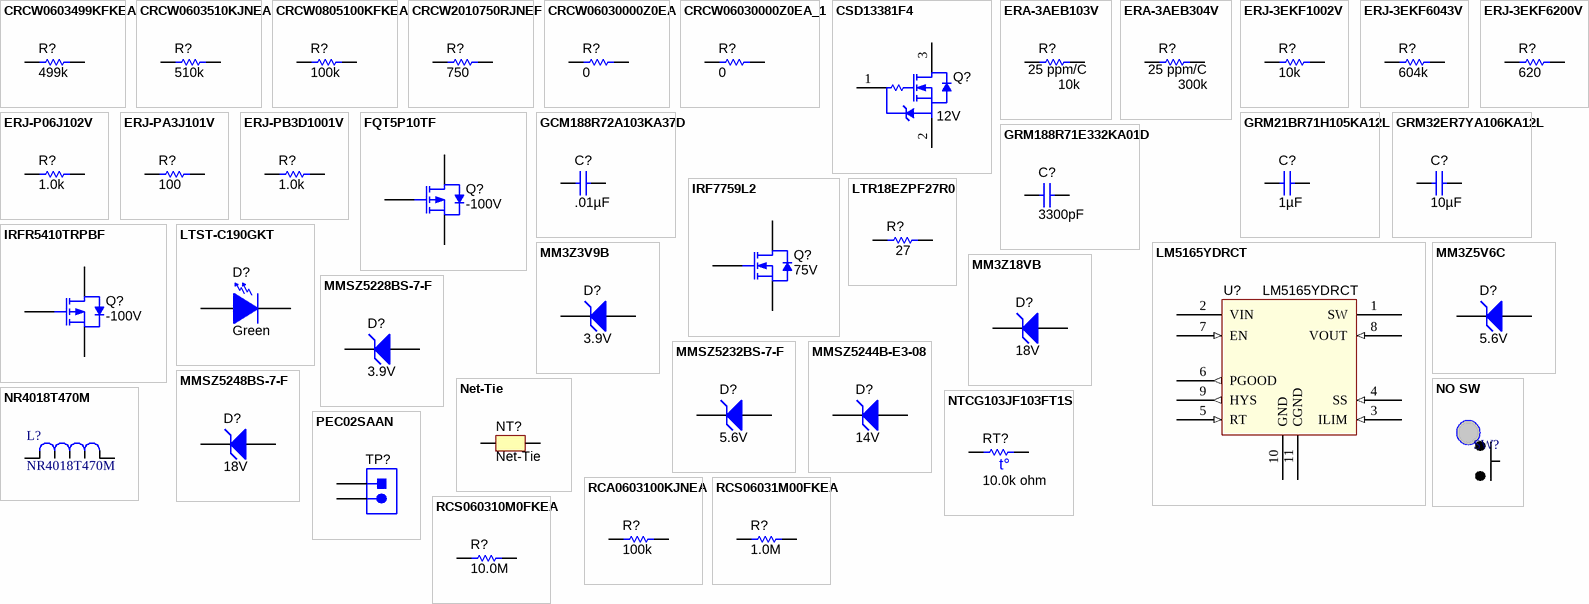
[diagram p1: symbols CRCW0603499KFKEA to RCS060310M0FKEA]

## CRCW0603499KFKEA
designator R?  ValueDisplayed: 499k  (hidden comment: CRCW0603499KFKEA)
RES, 499 k, 1%, 0.1 W, 0603; Manufacturer: Vishay-Dale; CompType: Resistor; Value: 499k; Res_ohm: 499000; Tolerance_%: 1; Power_W: 0.1; Value2: 0.1W; VDC_V: 75; TempCo: 100 ppm/C; EIA_Code: E96; U/M: EA; SymbolVersion: 2009-05-29; PartNumber: CRCW0603499KFKEA; PackageReference: 0603; RoHS: Y; Value_Code: 499k; Value1: 1%; MountType: SMT; Technology: Thick Film; Published: 2008-06-26; Publisher: Texas Instruments; LatestRevisionDate: 2015-04-06; ComponentLink1Description: Datasheet link; ComponentLink1URL: http://www.vishay.com/docs/20035/dcrcwe3.pdf; Supplier 1: Digi-Key; Supplier Part Number 1: 541-499KHCT-ND; Supplier 2: Mouser; Supplier Part Number 2: 71-CRCW0603-499K-E3; Supplier 3: Farnell; Supplier Part Number 3: 1152042
signal-integrity model Resistor
simulation model Resistor
footprint RES 0603/1608 (Chip Resistor, 2-Leads, Body 1.60x0.80mm, IPC Medium Density)
pins: 1, 2

## CRCW0603510KJNEA
designator R?  ValueDisplayed: 510k  (hidden comment: CRCW0603510KJNEA)
RES, 510 k, 5%, 0.1 W, 0603; Manufacturer: Vishay-Dale; CompType: Resistor; Value: 510k; Res_ohm: 510000; Tolerance_%: 5; Power_W: 0.1; Value2: 0.1W; VDC_V: 75; TempCo: 200 ppm/C; EIA_Code: E24; U/M: EA; AEC Category: Q200; SymbolVersion: 2009-05-29; PartNumber: CRCW0603510KJNEA; PackageReference: 0603; RoHS: Y; Value_Code: 510k; Value1: 5%; MountType: SMT; Technology: Thick Film; Published: 2008-06-26; Publisher: Texas Instruments; LatestRevisionDate: 2016-04-07; ComponentLink1Description: Datasheet link; ComponentLink1URL: http://www.vishay.com/docs/20035/dcrcwe3.pdf; Supplier 1: Digi-Key; Supplier Part Number 1: 541-510KGCT-ND; Supplier 2: Mouser; Supplier Part Number 2: 71-CRCW0603J-510K-E3; Supplier 3: Farnell; Supplier Part Number 3: 1570755; AEC Qualified: ?
signal-integrity model Resistor
simulation model Resistor
footprint 0603
footprint 0603M
footprint 0603L
footprint 0603_HV
footprint 0603S
pins: 1, 2

## CRCW0805100KFKEA
designator R?  value 100k  (hidden comment: CRCW0805100KFKEA)
RES, 100k ohm, 1%, 0.125W, 0805; Manufacturer: Vishay-Dale; CompType: Resistor; Res_ohm: 100000; Tolerance_%: 1; Power_W: 0.125; VDC_V: 150; TempCo: 100 ppm/C; EIA_Code: E96; U/M: EA; SymbolVersion: 2009-05-29; PartNumber: CRCW0805100KFKEA; PackageReference: 0805; RoHS: Y; Value_Code: 100k; Value1: 1%; Value2: 0.125W; MountType: SMT; Technology: Thick Film; Published: 2008-06-26; Publisher: Texas Instruments; LatestRevisionDate: 2013-10-15; ComponentLink1Description: Datasheet link; ComponentLink1URL: http://www.vishay.com/docs/20035/dcrcwe3.pdf; Supplier 1: Digi-Key; Supplier Part Number 1: 541-100KCCT-ND; Supplier 2: Mouser; Supplier Part Number 2: 71-CRCW0805-100K-E3; Supplier 3: Farnell; Supplier Part Number 3: 1469860
signal-integrity model Resistor
simulation model Resistor
footprint 0805_HV
footprint 0805
footprint 0805M
footprint 0805L
pins: 1, 2

## CRCW2010750RJNEF
designator R?  ValueDisplayed: 750  (hidden comment: CRCW2010750RJNEF)
RES, 750, 5%, 0.75 W, 2010; Manufacturer: Vishay-Dale; CompType: Resistor; Value: 750; Value_Code: 750R; Tolerance_%: 5; Power_W: 0.75; Value2: 0.75W; VDC_V: 400; TempCo: 200 ppm/C; EIA_Code: E24; U/M: EA; AEC Category: Q200; SymbolVersion: 2009-05-29; PartNumber: CRCW2010750RJNEF; PackageReference: 2010; RoHS: Y; Res_ohm: 750; Value1: 5%; MountType: SMT; Technology: Thick Film; Published: 2008-06-26; Publisher: Texas Instruments; LatestRevisionDate: 2016-02-02; ComponentLink1Description: Datasheet link; ComponentLink1URL: http://www.vishay.com/doc?20035; Supplier 1: Digi-Key; Supplier Part Number 1: 541-750WCT-ND; AEC Qualified: ?
signal-integrity model Resistor
simulation model Resistor
footprint 2010
footprint 2010M
footprint 2010L
pins: 1, 2

## CRCW06030000Z0EA
designator R?  ValueDisplayed: 0  (hidden comment: CRCW06030000Z0EA)
RES, 0, 5%, 0.1 W, 0603; Manufacturer: Vishay-Dale; CompType: Resistor; Value: 0; Value_Code: 0000; Tolerance_%: 5; Power_W: 0.1; Value2: 0.1W; VDC_V: 75; TempCo: 200 ppm/C; EIA_Code: E24; U/M: EA; AEC Category: Q200; SymbolVersion: 2009-05-29; PartNumber: CRCW06030000Z0EA; PackageReference: 0603; RoHS: Y; Res_ohm: 0; Value1: 5%; MountType: SMT; Technology: Thick Film; Published: 2008-06-26; Publisher: Texas Instruments; LatestRevisionDate: 2016-04-07; ComponentLink1Description: Datasheet link; ComponentLink1URL: http://www.vishay.com/docs/20035/dcrcwe3.pdf; Supplier 1: Digi-Key; Supplier Part Number 1: 541-0.0GCT-ND; Supplier 2: Mouser; Supplier Part Number 2: 71-CRCW0603-0-E3; Supplier 3: Farnell; Supplier Part Number 3: 1469739; AEC Qualified: ?
signal-integrity model Resistor
simulation model Resistor
footprint 0603
footprint 0603M
footprint 0603L
footprint 0603_HV
footprint 0603S
pins: 1, 2

## CRCW06030000Z0EA_1
designator R?, comment ValueDisplayed: 0  (hidden comment: CRCW06030000Z0EA)
RES, 0, 5%, 0.1 W, 0603; Manufacturer: Vishay-Dale; CompType: Resistor; Value: 0; Value_Code: 0000; Tolerance_%: 5; Power_W: 0.1; Value2: 0.1W; VDC_V: 75; TempCo: 200 ppm/C; EIA_Code: E24; U/M: EA; AEC Category: Q200; SizeArea_mm2: 1.28; SizeX_mm: 1.6; SizeY_mm: 0.8; SizeZ_mm: 1; SymbolVersion: 2009-05-29; PartNumber: CRCW06030000Z0EA; PackageReference: 0603; RoHS: Y; Res_ohm: 0; Value1: 5%; MountType: SMT; Technology: Thick Film; Published: 2008-06-26; Publisher: Texas Instruments; LatestRevisionDate: 2016-06-29; ComponentLink1Description: Datasheet link; ComponentLink1URL: http://www.vishay.com/docs/20035/dcrcwe3.pdf; Supplier 1: Digi-Key; Supplier Part Number 1: 541-0.0GCT-ND; Supplier 2: Mouser; Supplier Part Number 2: 71-CRCW0603-0-E3; Supplier 3: Farnell; Supplier Part Number 3: 1469739; AEC Qualified: ?
signal-integrity model Resistor
simulation model Resistor
footprint 0603
footprint 0603M
footprint 0603L
footprint 0603_HV
footprint 0603S
pins: 1, 2

## CSD13381F4
designator Q?  value 12V  (hidden comment: CSD13381F4)
MOSFET, N/P-CH, 12 V, 2.1 A, 1.0x0.35x0.6mm; Manufacturer: Texas Instruments; Alternate Manufacturer: None; SymbolCreator: a0411947; U/M: EA; ChType: N; VdsMax_V: 12; Value1: 0.14 ohm; Rdson45_ohm: 0.14; Value2: 1.06 nC; QgTyp_nC: 1.06; Vgs_V: 8; IdsMax_A: 2.1; SymbolVersion: 2013-11-21; PartNumber: CSD13381F4; PackageReference: 1.0x0.35x0.6mm; CompType: MOSFET; RoHS: Y; MountType: SMT; Published: 2008-06-19; Publisher: Texas Instruments; LatestRevisionDate: 2015-02-19; LatestRevisionNote: Added parts.; ComponentLink1Description: Datasheet link; ComponentLink1URL: http://www.ti.com/lit/ds/symlink/csd13381f4.pdf; Supplier 1: Digi-Key; Supplier 2: Newark; Supplier 3: Mouser; Supplier Part Number 1: 296-38912-6-ND; Supplier Part Number 2: 11X3112; Supplier Part Number 3: 595-CSD13381F4
footprint Femto (0402) (FemoFet)
pins: 1 G, 2 S, 3 D
1 alternate drawing of the same symbol

## ERA-3AEB103V
designator R?  TempCo: 25 ppm/C  ValueDisplayed: 10k  (hidden comment: ERA-3AEB103V)
RES SMD 10K OHM 0.1% 1/10W 0603; Manufacturer: Panasonic Electronic Components; CompType: Resistor; Res_ohm: 10000; Value_Code: 10k0; Tolerance_%: .1; Value1: .1%; Power_W: 0.1; Value2: 0.1W; VDC_V: 75; EIA_Code: E24; U/M: EA; SymbolVersion: 2009-05-29; Value: 10k; PartNumber: ERA-3AEB103V; PackageReference: 0603; RoHS: Y; MountType: SMT; Technology: Thick Film; Published: 2008-06-26; Publisher: Texas Instruments; LatestRevisionDate: 2015-04-06; ComponentLink1Description: Datasheet link; ComponentLink1URL: https://www.digikey.com/catalog/en/partgroup/era-3a-series/5907?mpart=ERA-3AEB103V&vendor=10; Supplier 1: Mouser; Supplier 2: Digi-Key; Supplier Part Number 1: 667-ERA-3AEB103V; Supplier Part Number 2: P10KDBDKR-ND
signal-integrity model Resistor
simulation model Resistor
footprint RES 0603/1608 (Chip Resistor, 2-Leads, Body 1.60x0.80mm, IPC Medium Density)
footprint 0603M
footprint 0603L
footprint 0603_HV
footprint 0603S
pins: 1, 2

## ERA-3AEB304V
designator R?, comment TempCo: 25 ppm/C  ValueDisplayed: 300k  (hidden comment: ERA-3AEB103V)
RES SMD 300K OHM 0.1% 1/10W 0603; Manufacturer: Panasonic Electronic Components; CompType: Resistor; Res_ohm: 300000; Value_Code: 10k0; Tolerance_%: .1; Value1: .1%; Power_W: 0.1; Value2: 0.1W; VDC_V: 75; EIA_Code: E24; U/M: EA; SymbolVersion: 2009-05-29; Value: 300k; PartNumber: ERA-3AEB103V; PackageReference: 0603; RoHS: Y; MountType: SMT; Technology: Thick Film; Published: 2008-06-26; Publisher: Texas Instruments; LatestRevisionDate: 2015-04-06; ComponentLink1Description: Datasheet link; ComponentLink1URL: https://www.digikey.com/catalog/en/partgroup/era-3a-series/5907?mpart=ERA-3AEB103V&vendor=10; Supplier 1: Mouser; Supplier 2: Digi-Key; Supplier Part Number 1: 667-ERA-3AEB103V; Supplier Part Number 2: P10KDBDKR-ND
signal-integrity model Resistor
simulation model Resistor
footprint RES 0603/1608 (Chip Resistor, 2-Leads, Body 1.60x0.80mm, IPC Medium Density)
footprint 0603M
footprint 0603L
footprint 0603_HV
footprint 0603S
pins: 1, 2

## ERJ-3EKF1002V
designator R?  ValueDisplayed: 10k  (hidden comment: ERJ-3EKF1002V)
RES SMD 10K OHM 1% 1/10W 0603; Manufacturer: Panasonic Electronic Components; CompType: Resistor; Res_ohm: 10000; Value_Code: 10k0; Tolerance_%: 5; Value1: 5%; Power_W: 0.1; Value2: 0.1W; VDC_V: 75; TempCo: 100 ppm/C; EIA_Code: E24; U/M: EA; SymbolVersion: 2009-05-29; Value: 10k; PartNumber: ERJ-3EKF1002V; PackageReference: 0603; RoHS: Y; MountType: SMT; Technology: Thick Film; Published: 2008-06-26; Publisher: Texas Instruments; LatestRevisionDate: 2015-04-06; ComponentLink1Description: Datasheet link; ComponentLink1URL: http://industrial.panasonic.com/www-cgi/jvcr13pz.cgi?E+PZ+3+AOA0002+ERJ3EKF1002V+7+WW; Supplier 1: Digi-Key; Supplier Part Number 1: P10.0KHCT-ND; Supplier 2: Mouser; Supplier 3: Farnell
signal-integrity model Resistor
simulation model Resistor
footprint RES 0603/1608 (Chip Resistor, 2-Leads, Body 1.60x0.80mm, IPC Medium Density)
footprint 0603M
footprint 0603L
footprint 0603_HV
footprint 0603S
pins: 1, 2